# Altium footprint library Connector_PinHeader_1.27mm.PcbLib: 278 footprints (part 5 of 18)
Each footprint in its own frame and in the unit in brackets; x right, y up, seen from the top. Pads: shape width x height; smd on the part's side, far side on the other; paste and mask are expansions set on the pad; w line width, h text height; cw(c..) or ccw(c..) is an arc to the next point about the centre after c.
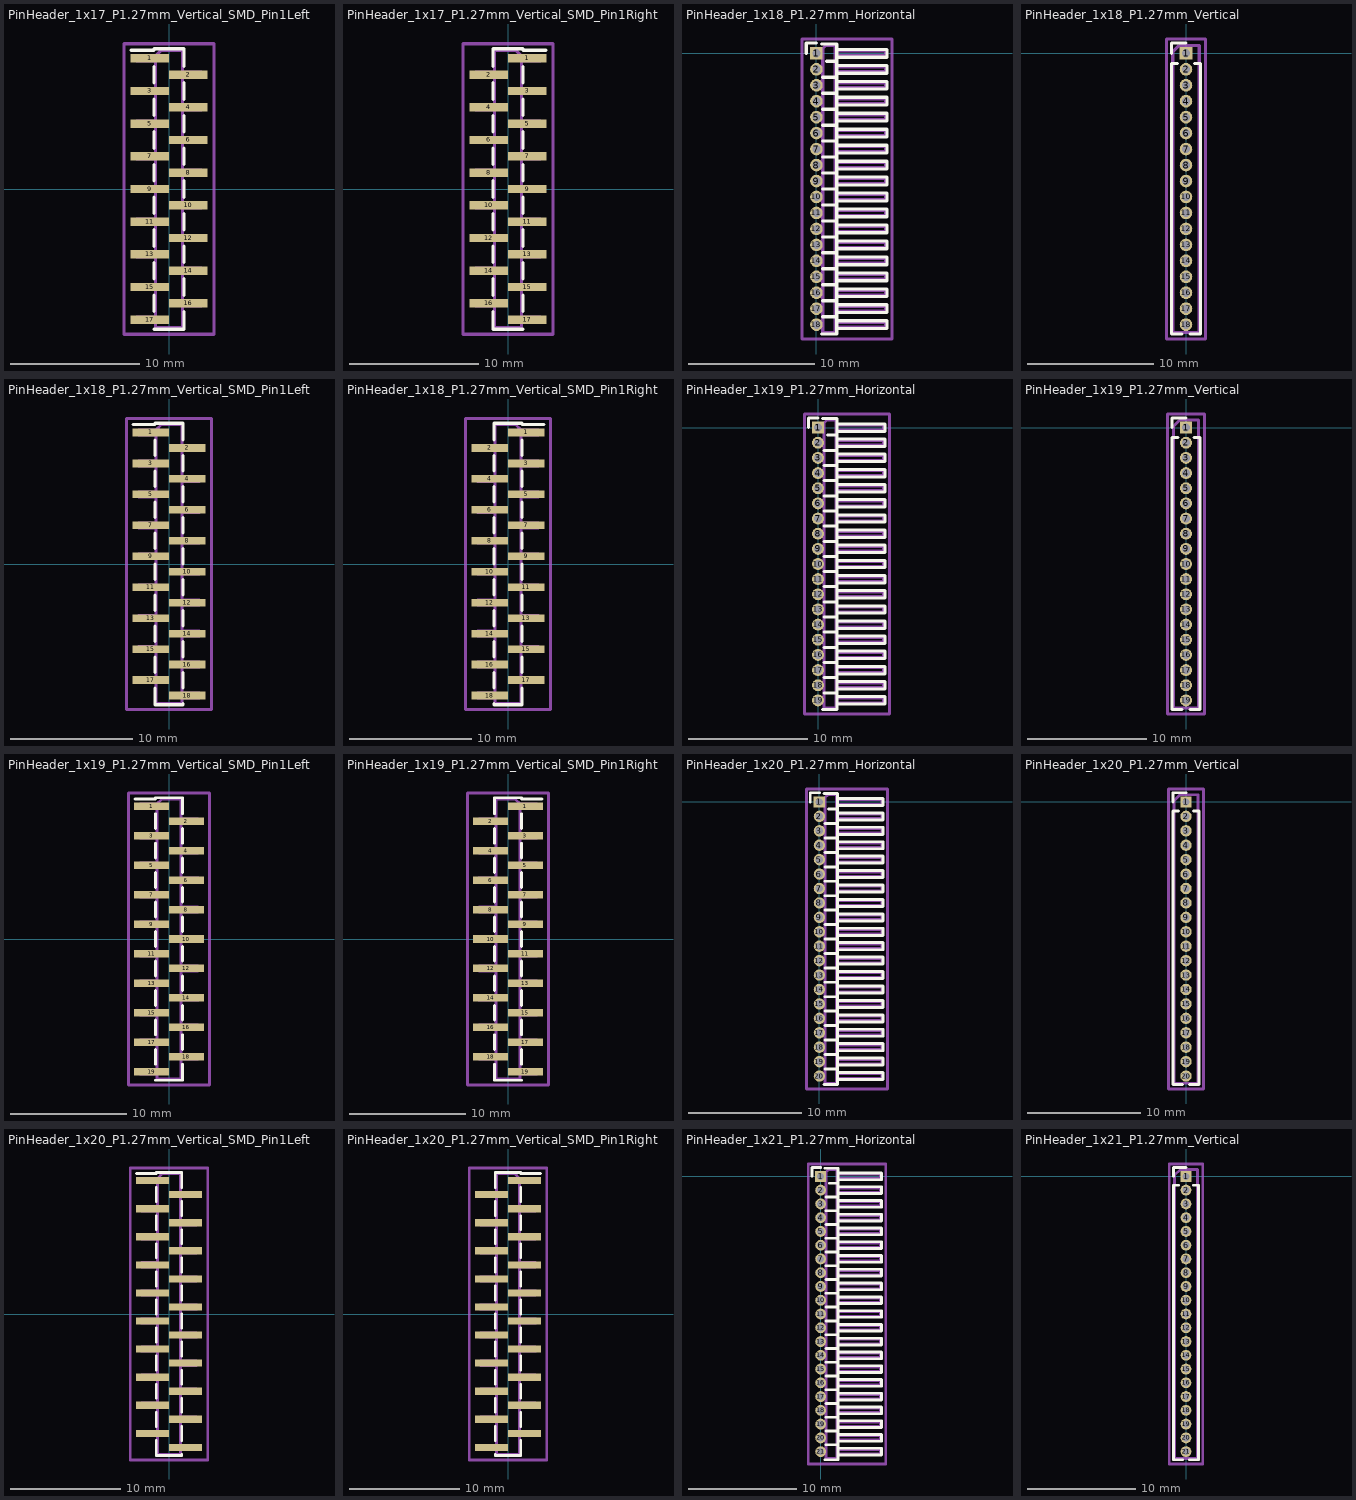
[diagram p4: the footprints below, top view; thin cyan lines are the x and y axes]

## PinHeader_1x17_P1.27mm_Vertical_SMD_Pin1Left [mm]
pads (17):
  rect 3x0.65 smd: 1(-1.5,10.16) 2(1.5,8.89) 3(-1.5,7.62) 4(1.5,6.35) 5(-1.5,5.08) 6(1.5,3.81) 7(-1.5,2.54) 8(1.5,1.27) 9(-1.5,0) 10(1.5,-1.27) 11(-1.5,-2.54) 12(1.5,-3.81) 13(-1.5,-5.08) 14(1.5,-6.35) 15(-1.5,-7.62) 16(1.5,-8.89) 17(-1.5,-10.16)
F.SilkS:
  lines w0.254: -2.94,10.795 -1.16,10.795 -1.16,10.905 1.16,10.905 ; -1.16,-10.905 1.16,-10.905 ; -1.16,-9.525 -1.16,-8.255 ; -1.16,-6.985 -1.16,-5.715 ; -1.16,-4.445 -1.16,-3.175 ; -1.16,-1.905 -1.16,-0.635 ; -1.16,0.635 -1.16,1.905 ; -1.16,3.175 -1.16,4.445 ; -1.16,5.715 -1.16,6.985 ; -1.16,8.255 -1.16,9.525 ; 1.16,-10.795 1.16,-10.905 ; 1.16,-9.525 1.16,-10.905 ; 1.16,-8.255 1.16,-6.985 ; 1.16,-5.715 1.16,-4.445 ; 1.16,-3.175 1.16,-1.905 ; 1.16,-0.635 1.16,0.635 ; 1.16,1.905 1.16,3.175 ; 1.16,4.445 1.16,5.715 ; 1.16,6.985 1.16,8.255 ; 1.16,9.525 1.16,10.795
Top Assembly:
  lines w0.254: -1.05,-10.36 -2.5,-10.36 -2.5,-9.96 -1.05,-9.96 ; -1.05,-7.82 -2.5,-7.82 -2.5,-7.42 -1.05,-7.42 ; -1.05,-5.28 -2.5,-5.28 -2.5,-4.88 -1.05,-4.88 ; -1.05,-2.74 -2.5,-2.74 -2.5,-2.34 -1.05,-2.34 ; -1.05,-0.2 -2.5,-0.2 -2.5,0.2 -1.05,0.2 ; -1.05,2.34 -2.5,2.34 -2.5,2.74 -1.05,2.74 ; -1.05,4.88 -2.5,4.88 -2.5,5.28 -1.05,5.28 ; -1.05,7.42 -2.5,7.42 -2.5,7.82 -1.05,7.82 ; -1.05,9.96 -2.5,9.96 -2.5,10.36 -1.05,10.36 ; 1.05,-9.09 2.5,-9.09 2.5,-8.69 1.05,-8.69 ; 1.05,-6.55 2.5,-6.55 2.5,-6.15 1.05,-6.15 ; 1.05,-4.01 2.5,-4.01 2.5,-3.61 1.05,-3.61 ; 1.05,-1.47 2.5,-1.47 2.5,-1.07 1.05,-1.07 ; 1.05,1.07 2.5,1.07 2.5,1.47 1.05,1.47 ; 1.05,3.61 2.5,3.61 2.5,4.01 1.05,4.01 ; 1.05,6.15 2.5,6.15 2.5,6.55 1.05,6.55 ; 1.05,8.69 2.5,8.69 2.5,9.09 1.05,9.09 ; -1.05,10.36 -1.05,-10.795 1.05,-10.795 1.05,10.795 -0.615,10.795 -1.05,10.36
  text "'.Designator'" at 0.84,-4.047 h1
Top Courtyard:
  lines w0.254: -3.5,-11.3 3.5,-11.3 3.5,11.3 -3.5,11.3 -3.5,-11.3
Top Designator:
  text ".Designator" at -7.618,-0.508 h1.52

## PinHeader_1x17_P1.27mm_Vertical_SMD_Pin1Right [mm]
pads (17):
  rect 3x0.65 smd: 1(1.5,10.16) 2(-1.5,8.89) 3(1.5,7.62) 4(-1.5,6.35) 5(1.5,5.08) 6(-1.5,3.81) 7(1.5,2.54) 8(-1.5,1.27) 9(1.5,0) 10(-1.5,-1.27) 11(1.5,-2.54) 12(-1.5,-3.81) 13(1.5,-5.08) 14(-1.5,-6.35) 15(1.5,-7.62) 16(-1.5,-8.89) 17(1.5,-10.16)
F.SilkS:
  lines w0.254: -1.16,-10.795 -1.16,-10.905 ; -1.16,-9.525 -1.16,-10.905 ; -1.16,-8.255 -1.16,-6.985 ; -1.16,-5.715 -1.16,-4.445 ; -1.16,-3.175 -1.16,-1.905 ; -1.16,-0.635 -1.16,0.635 ; -1.16,1.905 -1.16,3.175 ; -1.16,4.445 -1.16,5.715 ; -1.16,6.985 -1.16,8.255 ; -1.16,10.905 1.16,10.905 1.16,10.795 2.94,10.795 ; 1.16,-10.905 -1.16,-10.905 ; 1.16,-9.525 1.16,-8.255 ; 1.16,-6.985 1.16,-5.715 ; 1.16,-4.445 1.16,-3.175 ; 1.16,-1.905 1.16,-0.635 ; 1.16,0.635 1.16,1.905 ; 1.16,3.175 1.16,4.445 ; 1.16,5.715 1.16,6.985 ; 1.16,8.255 1.16,9.525 ; -1.16,9.525 -1.16,10.795 -1.16,9.525
Top Assembly:
  lines w0.254: -1.05,-9.09 -2.5,-9.09 -2.5,-8.69 -1.05,-8.69 ; -1.05,-6.55 -2.5,-6.55 -2.5,-6.15 -1.05,-6.15 ; -1.05,-4.01 -2.5,-4.01 -2.5,-3.61 -1.05,-3.61 ; -1.05,-1.47 -2.5,-1.47 -2.5,-1.07 -1.05,-1.07 ; -1.05,1.07 -2.5,1.07 -2.5,1.47 -1.05,1.47 ; -1.05,3.61 -2.5,3.61 -2.5,4.01 -1.05,4.01 ; -1.05,6.15 -2.5,6.15 -2.5,6.55 -1.05,6.55 ; -1.05,8.69 -2.5,8.69 -2.5,9.09 -1.05,9.09 ; 1.05,-10.36 2.5,-10.36 2.5,-9.96 1.05,-9.96 ; 1.05,-7.82 2.5,-7.82 2.5,-7.42 1.05,-7.42 ; 1.05,-5.28 2.5,-5.28 2.5,-4.88 1.05,-4.88 ; 1.05,-2.74 2.5,-2.74 2.5,-2.34 1.05,-2.34 ; 1.05,-0.2 2.5,-0.2 2.5,0.2 1.05,0.2 ; 1.05,2.34 2.5,2.34 2.5,2.74 1.05,2.74 ; 1.05,4.88 2.5,4.88 2.5,5.28 1.05,5.28 ; 1.05,7.42 2.5,7.42 2.5,7.82 1.05,7.82 ; 1.05,9.96 2.5,9.96 2.5,10.36 1.05,10.36 ; 1.05,10.36 1.05,-10.795 -1.05,-10.795 -1.05,10.795 0.615,10.795 1.05,10.36
  text "'.Designator'" at 0.84,-4.047 h1
Top Courtyard:
  lines w0.254: -3.5,-11.3 3.5,-11.3 3.5,11.3 -3.5,11.3 -3.5,-11.3
Top Designator:
  text ".Designator" at -7.618,-0.508 h1.52

## PinHeader_1x18_P1.27mm_Horizontal [mm]
pads (18):
  rect 1x1 hole 0.65: 1(0,0)
  round 1 hole 0.65: 2(0,-1.27) 3(0,-2.54) 4(0,-3.81) 5(0,-5.08) 6(0,-6.35) 7(0,-7.62) 8(0,-8.89) 9(0,-10.16) 10(0,-11.43) 11(0,-12.7) 12(0,-13.97) 13(0,-15.24) 14(0,-16.51) 15(0,-17.78) 16(0,-19.05) 17(0,-20.32) 18(0,-21.59)
F.SilkS:
  lines w0.254: -0.81,0 -0.81,0.81 0,0.81 ; 0.39,-22.335 1.61,-22.335 1.61,0.745 0.39,0.745 ; 0.503,-20.955 1.61,-20.955 ; 0.503,-19.685 1.61,-19.685 ; 0.503,-18.415 1.61,-18.415 ; 0.503,-17.145 1.61,-17.145 ; 0.503,-15.875 1.61,-15.875 ; 0.503,-14.605 1.61,-14.605 ; 0.503,-13.335 1.61,-13.335 ; 0.503,-12.065 1.61,-12.065 ; 0.503,-10.795 1.61,-10.795 ; 0.503,-9.525 1.61,-9.525 ; 0.503,-8.255 1.61,-8.255 ; 0.503,-6.985 1.61,-6.985 ; 0.503,-5.715 1.61,-5.715 ; 0.503,-4.445 1.61,-4.445 ; 0.503,-3.175 1.61,-3.175 ; 0.503,-1.905 1.61,-1.905 ; 0.81,-0.635 1.61,-0.635 ; 1.61,-21.9 5.61,-21.9 5.61,-21.28 1.61,-21.28 ; 1.61,-20.63 5.61,-20.63 5.61,-20.01 1.61,-20.01 ; 1.61,-19.36 5.61,-19.36 5.61,-18.74 1.61,-18.74 ; 1.61,-18.09 5.61,-18.09 5.61,-17.47 1.61,-17.47 ; 1.61,-16.82 5.61,-16.82 5.61,-16.2 1.61,-16.2 ; 1.61,-15.55 5.61,-15.55 5.61,-14.93 1.61,-14.93 ; 1.61,-14.28 5.61,-14.28 5.61,-13.66 1.61,-13.66 ; 1.61,-13.01 5.61,-13.01 5.61,-12.39 1.61,-12.39 ; 1.61,-11.74 5.61,-11.74 5.61,-11.12 1.61,-11.12 ; 1.61,-10.47 5.61,-10.47 5.61,-9.85 1.61,-9.85 ; 1.61,-9.2 5.61,-9.2 5.61,-8.58 1.61,-8.58 ; 1.61,-7.93 5.61,-7.93 5.61,-7.31 1.61,-7.31 ; 1.61,-6.66 5.61,-6.66 5.61,-6.04 1.61,-6.04 ; 1.61,-5.39 5.61,-5.39 5.61,-4.77 1.61,-4.77 ; 1.61,-4.12 5.61,-4.12 5.61,-3.5 1.61,-3.5 ; 1.61,-2.85 5.61,-2.85 5.61,-2.23 1.61,-2.23 ; 1.61,-1.58 5.61,-1.58 5.61,-0.96 1.61,-0.96 ; 1.61,-0.31 5.61,-0.31 5.61,0.31 1.61,0.31 1.61,-0.31
Top Assembly:
  lines w0.254: 0.5,-21.79 -0.2,-21.79 -0.2,-21.39 0.5,-21.39 ; 0.5,-20.52 -0.2,-20.52 -0.2,-20.12 0.5,-20.12 ; 0.5,-19.25 -0.2,-19.25 -0.2,-18.85 0.5,-18.85 ; 0.5,-17.98 -0.2,-17.98 -0.2,-17.58 0.5,-17.58 ; 0.5,-16.71 -0.2,-16.71 -0.2,-16.31 0.5,-16.31 ; 0.5,-15.44 -0.2,-15.44 -0.2,-15.04 0.5,-15.04 ; 0.5,-14.17 -0.2,-14.17 -0.2,-13.77 0.5,-13.77 ; 0.5,-12.9 -0.2,-12.9 -0.2,-12.5 0.5,-12.5 ; 0.5,-11.63 -0.2,-11.63 -0.2,-11.23 0.5,-11.23 ; 0.5,-10.36 -0.2,-10.36 -0.2,-9.96 0.5,-9.96 ; 0.5,-9.09 -0.2,-9.09 -0.2,-8.69 0.5,-8.69 ; 0.5,-7.82 -0.2,-7.82 -0.2,-7.42 0.5,-7.42 ; 0.5,-6.55 -0.2,-6.55 -0.2,-6.15 0.5,-6.15 ; 0.5,-5.28 -0.2,-5.28 -0.2,-4.88 0.5,-4.88 ; 0.5,-4.01 -0.2,-4.01 -0.2,-3.61 0.5,-3.61 ; 0.5,-2.74 -0.2,-2.74 -0.2,-2.34 0.5,-2.34 ; 0.5,-1.47 -0.2,-1.47 -0.2,-1.07 0.5,-1.07 ; 0.5,-0.2 -0.2,-0.2 -0.2,0.2 0.5,0.2 ; 1.5,-21.79 5.5,-21.79 5.5,-21.39 1.5,-21.39 ; 1.5,-20.52 5.5,-20.52 5.5,-20.12 1.5,-20.12 ; 1.5,-19.25 5.5,-19.25 5.5,-18.85 1.5,-18.85 ; 1.5,-17.98 5.5,-17.98 5.5,-17.58 1.5,-17.58 ; 1.5,-16.71 5.5,-16.71 5.5,-16.31 1.5,-16.31 ; 1.5,-15.44 5.5,-15.44 5.5,-15.04 1.5,-15.04 ; 1.5,-14.17 5.5,-14.17 5.5,-13.77 1.5,-13.77 ; 1.5,-12.9 5.5,-12.9 5.5,-12.5 1.5,-12.5 ; 1.5,-11.63 5.5,-11.63 5.5,-11.23 1.5,-11.23 ; 1.5,-10.36 5.5,-10.36 5.5,-9.96 1.5,-9.96 ; 1.5,-9.09 5.5,-9.09 5.5,-8.69 1.5,-8.69 ; 1.5,-7.82 5.5,-7.82 5.5,-7.42 1.5,-7.42 ; 1.5,-6.55 5.5,-6.55 5.5,-6.15 1.5,-6.15 ; 1.5,-5.28 5.5,-5.28 5.5,-4.88 1.5,-4.88 ; 1.5,-4.01 5.5,-4.01 5.5,-3.61 1.5,-3.61 ; 1.5,-2.74 5.5,-2.74 5.5,-2.34 1.5,-2.34 ; 1.5,-1.47 5.5,-1.47 5.5,-1.07 1.5,-1.07 ; 1.5,-0.2 5.5,-0.2 5.5,0.2 1.5,0.2 ; 0.5,-22.225 1.5,-22.225 1.5,0.635 0.75,0.635 0.5,0.385 0.5,-22.225
  text "'.Designator'" at 1.504,-13.223 h0.6
Top Courtyard:
  lines w0.254: -1.14,-22.73 6,-22.73 6,1.14 -1.14,1.14 -1.14,-22.73
Top Designator:
  text ".Designator" at -5.188,-11.303 h1.52

## PinHeader_1x18_P1.27mm_Vertical [mm]
pads (18):
  rect 1x1 hole 0.65: 1(0,0)
  round 1 hole 0.65: 2(0,-1.27) 3(0,-2.54) 4(0,-3.81) 5(0,-5.08) 6(0,-6.35) 7(0,-7.62) 8(0,-8.89) 9(0,-10.16) 10(0,-11.43) 11(0,-12.7) 12(0,-13.97) 13(0,-15.24) 14(0,-16.51) 15(0,-17.78) 16(0,-19.05) 17(0,-20.32) 18(0,-21.59)
F.SilkS:
  lines w0.254: -1.16,0 -1.16,0.81 0,0.81 ; -0.667,-0.81 -1.16,-0.81 -1.16,-22.335 -0.318,-22.335 ; 0.318,-22.335 1.16,-22.335 1.16,-0.81 0.667,-0.81
Top Assembly:
  lines w0.254: -1.05,-22.225 1.05,-22.225 1.05,0.635 -0.525,0.635 -1.05,0.11 -1.05,-22.225
  text "'.Designator'" at 0.84,-14.842 h1
Top Courtyard:
  lines w0.254: -1.55,-22.73 1.55,-22.73 1.55,1.14 -1.55,1.14 -1.55,-22.73
Top Designator:
  text ".Designator" at -7.618,-11.303 h1.52

## PinHeader_1x18_P1.27mm_Vertical_SMD_Pin1Left [mm]
pads (18):
  rect 3x0.65 smd: 1(-1.5,10.795) 2(1.5,9.525) 3(-1.5,8.255) 4(1.5,6.985) 5(-1.5,5.715) 6(1.5,4.445) 7(-1.5,3.175) 8(1.5,1.905) 9(-1.5,0.635) 10(1.5,-0.635) 11(-1.5,-1.905) 12(1.5,-3.175) 13(-1.5,-4.445) 14(1.5,-5.715) 15(-1.5,-6.985) 16(1.5,-8.255) 17(-1.5,-9.525) 18(1.5,-10.795)
F.SilkS:
  lines w0.254: -2.94,11.43 -1.16,11.43 -1.16,11.54 1.16,11.54 ; -1.16,-10.16 -1.16,-11.54 1.16,-11.54 1.16,-11.43 ; -1.16,-8.89 -1.16,-7.62 ; -1.16,-6.35 -1.16,-5.08 ; -1.16,-3.81 -1.16,-2.54 ; -1.16,-1.27 -1.16,0 ; -1.16,1.27 -1.16,2.54 ; -1.16,3.81 -1.16,5.08 ; -1.16,6.35 -1.16,7.62 ; -1.16,8.89 -1.16,10.16 ; 1.16,-10.16 1.16,-8.89 ; 1.16,-7.62 1.16,-6.35 ; 1.16,-5.08 1.16,-3.81 ; 1.16,-2.54 1.16,-1.27 ; 1.16,0 1.16,1.27 ; 1.16,2.54 1.16,3.81 ; 1.16,5.08 1.16,6.35 ; 1.16,7.62 1.16,8.89 ; 1.16,10.16 1.16,11.43
Top Assembly:
  lines w0.254: -1.05,-9.725 -2.5,-9.725 -2.5,-9.325 -1.05,-9.325 ; -1.05,-7.185 -2.5,-7.185 -2.5,-6.785 -1.05,-6.785 ; -1.05,-4.645 -2.5,-4.645 -2.5,-4.245 -1.05,-4.245 ; -1.05,-2.105 -2.5,-2.105 -2.5,-1.705 -1.05,-1.705 ; -1.05,0.435 -2.5,0.435 -2.5,0.835 -1.05,0.835 ; -1.05,2.975 -2.5,2.975 -2.5,3.375 -1.05,3.375 ; -1.05,5.515 -2.5,5.515 -2.5,5.915 -1.05,5.915 ; -1.05,8.055 -2.5,8.055 -2.5,8.455 -1.05,8.455 ; -1.05,10.595 -2.5,10.595 -2.5,10.995 -1.05,10.995 ; 1.05,-10.995 2.5,-10.995 2.5,-10.595 1.05,-10.595 ; 1.05,-8.455 2.5,-8.455 2.5,-8.055 1.05,-8.055 ; 1.05,-5.915 2.5,-5.915 2.5,-5.515 1.05,-5.515 ; 1.05,-3.375 2.5,-3.375 2.5,-2.975 1.05,-2.975 ; 1.05,-0.835 2.5,-0.835 2.5,-0.435 1.05,-0.435 ; 1.05,1.705 2.5,1.705 2.5,2.105 1.05,2.105 ; 1.05,4.245 2.5,4.245 2.5,4.645 1.05,4.645 ; 1.05,6.785 2.5,6.785 2.5,7.185 1.05,7.185 ; 1.05,9.325 2.5,9.325 2.5,9.725 1.05,9.725 ; -1.05,10.995 -1.05,-11.43 1.05,-11.43 1.05,11.43 -0.615,11.43 -1.05,10.995
  text "'.Designator'" at 0.84,-4.047 h1
Top Courtyard:
  lines w0.254: -3.5,-11.94 3.5,-11.94 3.5,11.94 -3.5,11.94 -3.5,-11.94
Top Designator:
  text ".Designator" at -7.618,-0.508 h1.52

## PinHeader_1x18_P1.27mm_Vertical_SMD_Pin1Right [mm]
pads (18):
  rect 3x0.65 smd: 1(1.5,10.795) 2(-1.5,9.525) 3(1.5,8.255) 4(-1.5,6.985) 5(1.5,5.715) 6(-1.5,4.445) 7(1.5,3.175) 8(-1.5,1.905) 9(1.5,0.635) 10(-1.5,-0.635) 11(1.5,-1.905) 12(-1.5,-3.175) 13(1.5,-4.445) 14(-1.5,-5.715) 15(1.5,-6.985) 16(-1.5,-8.255) 17(1.5,-9.525) 18(-1.5,-10.795)
F.SilkS:
  lines w0.254: -1.16,-11.43 -1.16,-11.54 1.16,-11.54 1.16,-10.16 ; -1.16,-10.16 -1.16,-8.89 ; -1.16,-7.62 -1.16,-6.35 ; -1.16,-5.08 -1.16,-3.81 ; -1.16,-2.54 -1.16,-1.27 ; -1.16,0 -1.16,1.27 ; -1.16,2.54 -1.16,3.81 ; -1.16,5.08 -1.16,6.35 ; -1.16,7.62 -1.16,8.89 ; -1.16,11.54 1.16,11.54 1.16,11.43 2.94,11.43 ; 1.16,-8.89 1.16,-7.62 ; 1.16,-6.35 1.16,-5.08 ; 1.16,-3.81 1.16,-2.54 ; 1.16,-1.27 1.16,0 ; 1.16,1.27 1.16,2.54 ; 1.16,3.81 1.16,5.08 ; 1.16,6.35 1.16,7.62 ; 1.16,8.89 1.16,10.16 ; -1.16,10.16 -1.16,11.43 -1.16,10.16
Top Assembly:
  lines w0.254: -1.05,-10.995 -2.5,-10.995 -2.5,-10.595 -1.05,-10.595 ; -1.05,-8.455 -2.5,-8.455 -2.5,-8.055 -1.05,-8.055 ; -1.05,-5.915 -2.5,-5.915 -2.5,-5.515 -1.05,-5.515 ; -1.05,-3.375 -2.5,-3.375 -2.5,-2.975 -1.05,-2.975 ; -1.05,-0.835 -2.5,-0.835 -2.5,-0.435 -1.05,-0.435 ; -1.05,1.705 -2.5,1.705 -2.5,2.105 -1.05,2.105 ; -1.05,4.245 -2.5,4.245 -2.5,4.645 -1.05,4.645 ; -1.05,6.785 -2.5,6.785 -2.5,7.185 -1.05,7.185 ; -1.05,9.325 -2.5,9.325 -2.5,9.725 -1.05,9.725 ; 1.05,-9.725 2.5,-9.725 2.5,-9.325 1.05,-9.325 ; 1.05,-7.185 2.5,-7.185 2.5,-6.785 1.05,-6.785 ; 1.05,-4.645 2.5,-4.645 2.5,-4.245 1.05,-4.245 ; 1.05,-2.105 2.5,-2.105 2.5,-1.705 1.05,-1.705 ; 1.05,0.435 2.5,0.435 2.5,0.835 1.05,0.835 ; 1.05,2.975 2.5,2.975 2.5,3.375 1.05,3.375 ; 1.05,5.515 2.5,5.515 2.5,5.915 1.05,5.915 ; 1.05,8.055 2.5,8.055 2.5,8.455 1.05,8.455 ; 1.05,10.595 2.5,10.595 2.5,10.995 1.05,10.995 ; 1.05,10.995 1.05,-11.43 -1.05,-11.43 -1.05,11.43 0.615,11.43 1.05,10.995
  text "'.Designator'" at 0.84,-4.047 h1
Top Courtyard:
  lines w0.254: -3.5,-11.94 3.5,-11.94 3.5,11.94 -3.5,11.94 -3.5,-11.94
Top Designator:
  text ".Designator" at -7.618,-0.508 h1.52

## PinHeader_1x19_P1.27mm_Horizontal [mm]
pads (19):
  rect 1x1 hole 0.65: 1(0,0)
  round 1 hole 0.65: 2(0,-1.27) 3(0,-2.54) 4(0,-3.81) 5(0,-5.08) 6(0,-6.35) 7(0,-7.62) 8(0,-8.89) 9(0,-10.16) 10(0,-11.43) 11(0,-12.7) 12(0,-13.97) 13(0,-15.24) 14(0,-16.51) 15(0,-17.78) 16(0,-19.05) 17(0,-20.32) 18(0,-21.59) 19(0,-22.86)
F.SilkS:
  lines w0.254: -0.81,0 -0.81,0.81 0,0.81 ; 0.39,-23.605 1.61,-23.605 1.61,0.745 0.39,0.745 ; 0.503,-22.225 1.61,-22.225 ; 0.503,-20.955 1.61,-20.955 ; 0.503,-19.685 1.61,-19.685 ; 0.503,-18.415 1.61,-18.415 ; 0.503,-17.145 1.61,-17.145 ; 0.503,-15.875 1.61,-15.875 ; 0.503,-14.605 1.61,-14.605 ; 0.503,-13.335 1.61,-13.335 ; 0.503,-12.065 1.61,-12.065 ; 0.503,-10.795 1.61,-10.795 ; 0.503,-9.525 1.61,-9.525 ; 0.503,-8.255 1.61,-8.255 ; 0.503,-6.985 1.61,-6.985 ; 0.503,-5.715 1.61,-5.715 ; 0.503,-4.445 1.61,-4.445 ; 0.503,-3.175 1.61,-3.175 ; 0.503,-1.905 1.61,-1.905 ; 0.81,-0.635 1.61,-0.635 ; 1.61,-23.17 5.61,-23.17 5.61,-22.55 1.61,-22.55 ; 1.61,-21.9 5.61,-21.9 5.61,-21.28 1.61,-21.28 ; 1.61,-20.63 5.61,-20.63 5.61,-20.01 1.61,-20.01 ; 1.61,-19.36 5.61,-19.36 5.61,-18.74 1.61,-18.74 ; 1.61,-18.09 5.61,-18.09 5.61,-17.47 1.61,-17.47 ; 1.61,-16.82 5.61,-16.82 5.61,-16.2 1.61,-16.2 ; 1.61,-15.55 5.61,-15.55 5.61,-14.93 1.61,-14.93 ; 1.61,-14.28 5.61,-14.28 5.61,-13.66 1.61,-13.66 ; 1.61,-13.01 5.61,-13.01 5.61,-12.39 1.61,-12.39 ; 1.61,-11.74 5.61,-11.74 5.61,-11.12 1.61,-11.12 ; 1.61,-10.47 5.61,-10.47 5.61,-9.85 1.61,-9.85 ; 1.61,-9.2 5.61,-9.2 5.61,-8.58 1.61,-8.58 ; 1.61,-7.93 5.61,-7.93 5.61,-7.31 1.61,-7.31 ; 1.61,-6.66 5.61,-6.66 5.61,-6.04 1.61,-6.04 ; 1.61,-5.39 5.61,-5.39 5.61,-4.77 1.61,-4.77 ; 1.61,-4.12 5.61,-4.12 5.61,-3.5 1.61,-3.5 ; 1.61,-2.85 5.61,-2.85 5.61,-2.23 1.61,-2.23 ; 1.61,-1.58 5.61,-1.58 5.61,-0.96 1.61,-0.96 ; 1.61,-0.31 5.61,-0.31 5.61,0.31 1.61,0.31 1.61,-0.31
Top Assembly:
  lines w0.254: 0.5,-23.06 -0.2,-23.06 -0.2,-22.66 0.5,-22.66 ; 0.5,-21.79 -0.2,-21.79 -0.2,-21.39 0.5,-21.39 ; 0.5,-20.52 -0.2,-20.52 -0.2,-20.12 0.5,-20.12 ; 0.5,-19.25 -0.2,-19.25 -0.2,-18.85 0.5,-18.85 ; 0.5,-17.98 -0.2,-17.98 -0.2,-17.58 0.5,-17.58 ; 0.5,-16.71 -0.2,-16.71 -0.2,-16.31 0.5,-16.31 ; 0.5,-15.44 -0.2,-15.44 -0.2,-15.04 0.5,-15.04 ; 0.5,-14.17 -0.2,-14.17 -0.2,-13.77 0.5,-13.77 ; 0.5,-12.9 -0.2,-12.9 -0.2,-12.5 0.5,-12.5 ; 0.5,-11.63 -0.2,-11.63 -0.2,-11.23 0.5,-11.23 ; 0.5,-10.36 -0.2,-10.36 -0.2,-9.96 0.5,-9.96 ; 0.5,-9.09 -0.2,-9.09 -0.2,-8.69 0.5,-8.69 ; 0.5,-7.82 -0.2,-7.82 -0.2,-7.42 0.5,-7.42 ; 0.5,-6.55 -0.2,-6.55 -0.2,-6.15 0.5,-6.15 ; 0.5,-5.28 -0.2,-5.28 -0.2,-4.88 0.5,-4.88 ; 0.5,-4.01 -0.2,-4.01 -0.2,-3.61 0.5,-3.61 ; 0.5,-2.74 -0.2,-2.74 -0.2,-2.34 0.5,-2.34 ; 0.5,-1.47 -0.2,-1.47 -0.2,-1.07 0.5,-1.07 ; 0.5,-0.2 -0.2,-0.2 -0.2,0.2 0.5,0.2 ; 1.5,-23.06 5.5,-23.06 5.5,-22.66 1.5,-22.66 ; 1.5,-21.79 5.5,-21.79 5.5,-21.39 1.5,-21.39 ; 1.5,-20.52 5.5,-20.52 5.5,-20.12 1.5,-20.12 ; 1.5,-19.25 5.5,-19.25 5.5,-18.85 1.5,-18.85 ; 1.5,-17.98 5.5,-17.98 5.5,-17.58 1.5,-17.58 ; 1.5,-16.71 5.5,-16.71 5.5,-16.31 1.5,-16.31 ; 1.5,-15.44 5.5,-15.44 5.5,-15.04 1.5,-15.04 ; 1.5,-14.17 5.5,-14.17 5.5,-13.77 1.5,-13.77 ; 1.5,-12.9 5.5,-12.9 5.5,-12.5 1.5,-12.5 ; 1.5,-11.63 5.5,-11.63 5.5,-11.23 1.5,-11.23 ; 1.5,-10.36 5.5,-10.36 5.5,-9.96 1.5,-9.96 ; 1.5,-9.09 5.5,-9.09 5.5,-8.69 1.5,-8.69 ; 1.5,-7.82 5.5,-7.82 5.5,-7.42 1.5,-7.42 ; 1.5,-6.55 5.5,-6.55 5.5,-6.15 1.5,-6.15 ; 1.5,-5.28 5.5,-5.28 5.5,-4.88 1.5,-4.88 ; 1.5,-4.01 5.5,-4.01 5.5,-3.61 1.5,-3.61 ; 1.5,-2.74 5.5,-2.74 5.5,-2.34 1.5,-2.34 ; 1.5,-1.47 5.5,-1.47 5.5,-1.07 1.5,-1.07 ; 1.5,-0.2 5.5,-0.2 5.5,0.2 1.5,0.2 ; 0.5,-23.495 1.5,-23.495 1.5,0.635 0.75,0.635 0.5,0.385 0.5,-23.495
  text "'.Designator'" at 1.504,-13.858 h0.6
Top Courtyard:
  lines w0.254: -1.14,-24 6,-24 6,1.14 -1.14,1.14 -1.14,-24
Top Designator:
  text ".Designator" at -5.188,-11.938 h1.52

## PinHeader_1x19_P1.27mm_Vertical [mm]
pads (19):
  rect 1x1 hole 0.65: 1(0,0)
  round 1 hole 0.65: 2(0,-1.27) 3(0,-2.54) 4(0,-3.81) 5(0,-5.08) 6(0,-6.35) 7(0,-7.62) 8(0,-8.89) 9(0,-10.16) 10(0,-11.43) 11(0,-12.7) 12(0,-13.97) 13(0,-15.24) 14(0,-16.51) 15(0,-17.78) 16(0,-19.05) 17(0,-20.32) 18(0,-21.59) 19(0,-22.86)
F.SilkS:
  lines w0.254: -1.16,0 -1.16,0.81 0,0.81 ; -0.667,-0.81 -1.16,-0.81 -1.16,-23.605 -0.318,-23.605 ; 0.318,-23.605 1.16,-23.605 1.16,-0.81 0.667,-0.81
Top Assembly:
  lines w0.254: -1.05,-23.495 1.05,-23.495 1.05,0.635 -0.525,0.635 -1.05,0.11 -1.05,-23.495
  text "'.Designator'" at 0.84,-15.477 h1
Top Courtyard:
  lines w0.254: -1.55,-24 1.55,-24 1.55,1.14 -1.55,1.14 -1.55,-24
Top Designator:
  text ".Designator" at -7.618,-11.938 h1.52

## PinHeader_1x19_P1.27mm_Vertical_SMD_Pin1Left [mm]
pads (19):
  rect 3x0.65 smd: 1(-1.5,11.43) 2(1.5,10.16) 3(-1.5,8.89) 4(1.5,7.62) 5(-1.5,6.35) 6(1.5,5.08) 7(-1.5,3.81) 8(1.5,2.54) 9(-1.5,1.27) 10(1.5,0) 11(-1.5,-1.27) 12(1.5,-2.54) 13(-1.5,-3.81) 14(1.5,-5.08) 15(-1.5,-6.35) 16(1.5,-7.62) 17(-1.5,-8.89) 18(1.5,-10.16) 19(-1.5,-11.43)
F.SilkS:
  lines w0.254: -2.94,12.065 -1.16,12.065 -1.16,12.175 1.16,12.175 ; -1.16,-12.175 1.16,-12.175 ; -1.16,-10.795 -1.16,-9.525 ; -1.16,-8.255 -1.16,-6.985 ; -1.16,-5.715 -1.16,-4.445 ; -1.16,-3.175 -1.16,-1.905 ; -1.16,-0.635 -1.16,0.635 ; -1.16,1.905 -1.16,3.175 ; -1.16,4.445 -1.16,5.715 ; -1.16,6.985 -1.16,8.255 ; -1.16,9.525 -1.16,10.795 ; 1.16,-12.065 1.16,-12.175 ; 1.16,-10.795 1.16,-12.175 ; 1.16,-9.525 1.16,-8.255 ; 1.16,-6.985 1.16,-5.715 ; 1.16,-4.445 1.16,-3.175 ; 1.16,-1.905 1.16,-0.635 ; 1.16,0.635 1.16,1.905 ; 1.16,3.175 1.16,4.445 ; 1.16,5.715 1.16,6.985 ; 1.16,8.255 1.16,9.525 ; 1.16,10.795 1.16,12.065
Top Assembly:
  lines w0.254: -1.05,-11.63 -2.5,-11.63 -2.5,-11.23 -1.05,-11.23 ; -1.05,-9.09 -2.5,-9.09 -2.5,-8.69 -1.05,-8.69 ; -1.05,-6.55 -2.5,-6.55 -2.5,-6.15 -1.05,-6.15 ; -1.05,-4.01 -2.5,-4.01 -2.5,-3.61 -1.05,-3.61 ; -1.05,-1.47 -2.5,-1.47 -2.5,-1.07 -1.05,-1.07 ; -1.05,1.07 -2.5,1.07 -2.5,1.47 -1.05,1.47 ; -1.05,3.61 -2.5,3.61 -2.5,4.01 -1.05,4.01 ; -1.05,6.15 -2.5,6.15 -2.5,6.55 -1.05,6.55 ; -1.05,8.69 -2.5,8.69 -2.5,9.09 -1.05,9.09 ; -1.05,11.23 -2.5,11.23 -2.5,11.63 -1.05,11.63 ; 1.05,-10.36 2.5,-10.36 2.5,-9.96 1.05,-9.96 ; 1.05,-7.82 2.5,-7.82 2.5,-7.42 1.05,-7.42 ; 1.05,-5.28 2.5,-5.28 2.5,-4.88 1.05,-4.88 ; 1.05,-2.74 2.5,-2.74 2.5,-2.34 1.05,-2.34 ; 1.05,-0.2 2.5,-0.2 2.5,0.2 1.05,0.2 ; 1.05,2.34 2.5,2.34 2.5,2.74 1.05,2.74 ; 1.05,4.88 2.5,4.88 2.5,5.28 1.05,5.28 ; 1.05,7.42 2.5,7.42 2.5,7.82 1.05,7.82 ; 1.05,9.96 2.5,9.96 2.5,10.36 1.05,10.36 ; -1.05,11.63 -1.05,-12.065 1.05,-12.065 1.05,12.065 -0.615,12.065 -1.05,11.63
  text "'.Designator'" at 0.84,-4.047 h1
Top Courtyard:
  lines w0.254: -3.5,-12.57 3.5,-12.57 3.5,12.57 -3.5,12.57 -3.5,-12.57
Top Designator:
  text ".Designator" at -7.618,-0.508 h1.52

## PinHeader_1x19_P1.27mm_Vertical_SMD_Pin1Right [mm]
pads (19):
  rect 3x0.65 smd: 1(1.5,11.43) 2(-1.5,10.16) 3(1.5,8.89) 4(-1.5,7.62) 5(1.5,6.35) 6(-1.5,5.08) 7(1.5,3.81) 8(-1.5,2.54) 9(1.5,1.27) 10(-1.5,0) 11(1.5,-1.27) 12(-1.5,-2.54) 13(1.5,-3.81) 14(-1.5,-5.08) 15(1.5,-6.35) 16(-1.5,-7.62) 17(1.5,-8.89) 18(-1.5,-10.16) 19(1.5,-11.43)
F.SilkS:
  lines w0.254: -1.16,-12.065 -1.16,-12.175 ; -1.16,-10.795 -1.16,-12.175 ; -1.16,-9.525 -1.16,-8.255 ; -1.16,-6.985 -1.16,-5.715 ; -1.16,-4.445 -1.16,-3.175 ; -1.16,-1.905 -1.16,-0.635 ; -1.16,0.635 -1.16,1.905 ; -1.16,3.175 -1.16,4.445 ; -1.16,5.715 -1.16,6.985 ; -1.16,8.255 -1.16,9.525 ; -1.16,12.175 1.16,12.175 1.16,12.065 2.94,12.065 ; 1.16,-12.175 -1.16,-12.175 ; 1.16,-10.795 1.16,-9.525 ; 1.16,-8.255 1.16,-6.985 ; 1.16,-5.715 1.16,-4.445 ; 1.16,-3.175 1.16,-1.905 ; 1.16,-0.635 1.16,0.635 ; 1.16,1.905 1.16,3.175 ; 1.16,4.445 1.16,5.715 ; 1.16,6.985 1.16,8.255 ; 1.16,9.525 1.16,10.795 ; -1.16,10.795 -1.16,12.065 -1.16,10.795
Top Assembly:
  lines w0.254: -1.05,-10.36 -2.5,-10.36 -2.5,-9.96 -1.05,-9.96 ; -1.05,-7.82 -2.5,-7.82 -2.5,-7.42 -1.05,-7.42 ; -1.05,-5.28 -2.5,-5.28 -2.5,-4.88 -1.05,-4.88 ; -1.05,-2.74 -2.5,-2.74 -2.5,-2.34 -1.05,-2.34 ; -1.05,-0.2 -2.5,-0.2 -2.5,0.2 -1.05,0.2 ; -1.05,2.34 -2.5,2.34 -2.5,2.74 -1.05,2.74 ; -1.05,4.88 -2.5,4.88 -2.5,5.28 -1.05,5.28 ; -1.05,7.42 -2.5,7.42 -2.5,7.82 -1.05,7.82 ; -1.05,9.96 -2.5,9.96 -2.5,10.36 -1.05,10.36 ; 1.05,-11.63 2.5,-11.63 2.5,-11.23 1.05,-11.23 ; 1.05,-9.09 2.5,-9.09 2.5,-8.69 1.05,-8.69 ; 1.05,-6.55 2.5,-6.55 2.5,-6.15 1.05,-6.15 ; 1.05,-4.01 2.5,-4.01 2.5,-3.61 1.05,-3.61 ; 1.05,-1.47 2.5,-1.47 2.5,-1.07 1.05,-1.07 ; 1.05,1.07 2.5,1.07 2.5,1.47 1.05,1.47 ; 1.05,3.61 2.5,3.61 2.5,4.01 1.05,4.01 ; 1.05,6.15 2.5,6.15 2.5,6.55 1.05,6.55 ; 1.05,8.69 2.5,8.69 2.5,9.09 1.05,9.09 ; 1.05,11.23 2.5,11.23 2.5,11.63 1.05,11.63 ; 1.05,11.63 1.05,-12.065 -1.05,-12.065 -1.05,12.065 0.615,12.065 1.05,11.63
  text "'.Designator'" at 0.84,-4.047 h1
Top Courtyard:
  lines w0.254: -3.5,-12.57 3.5,-12.57 3.5,12.57 -3.5,12.57 -3.5,-12.57
Top Designator:
  text ".Designator" at -7.618,-0.508 h1.52

## PinHeader_1x20_P1.27mm_Horizontal [mm]
pads (20):
  rect 1x1 hole 0.65: 1(0,0)
  round 1 hole 0.65: 2(0,-1.27) 3(0,-2.54) 4(0,-3.81) 5(0,-5.08) 6(0,-6.35) 7(0,-7.62) 8(0,-8.89) 9(0,-10.16) 10(0,-11.43) 11(0,-12.7) 12(0,-13.97) 13(0,-15.24) 14(0,-16.51) 15(0,-17.78) 16(0,-19.05) 17(0,-20.32) 18(0,-21.59) 19(0,-22.86) 20(0,-24.13)
F.SilkS:
  lines w0.254: -0.81,0 -0.81,0.81 0,0.81 ; 0.39,-24.875 1.61,-24.875 1.61,0.745 0.39,0.745 ; 0.503,-23.495 1.61,-23.495 ; 0.503,-22.225 1.61,-22.225 ; 0.503,-20.955 1.61,-20.955 ; 0.503,-19.685 1.61,-19.685 ; 0.503,-18.415 1.61,-18.415 ; 0.503,-17.145 1.61,-17.145 ; 0.503,-15.875 1.61,-15.875 ; 0.503,-14.605 1.61,-14.605 ; 0.503,-13.335 1.61,-13.335 ; 0.503,-12.065 1.61,-12.065 ; 0.503,-10.795 1.61,-10.795 ; 0.503,-9.525 1.61,-9.525 ; 0.503,-8.255 1.61,-8.255 ; 0.503,-6.985 1.61,-6.985 ; 0.503,-5.715 1.61,-5.715 ; 0.503,-4.445 1.61,-4.445 ; 0.503,-3.175 1.61,-3.175 ; 0.503,-1.905 1.61,-1.905 ; 0.81,-0.635 1.61,-0.635 ; 1.61,-24.44 5.61,-24.44 5.61,-23.82 1.61,-23.82 ; 1.61,-23.17 5.61,-23.17 5.61,-22.55 1.61,-22.55 ; 1.61,-21.9 5.61,-21.9 5.61,-21.28 1.61,-21.28 ; 1.61,-20.63 5.61,-20.63 5.61,-20.01 1.61,-20.01 ; 1.61,-19.36 5.61,-19.36 5.61,-18.74 1.61,-18.74 ; 1.61,-18.09 5.61,-18.09 5.61,-17.47 1.61,-17.47 ; 1.61,-16.82 5.61,-16.82 5.61,-16.2 1.61,-16.2 ; 1.61,-15.55 5.61,-15.55 5.61,-14.93 1.61,-14.93 ; 1.61,-14.28 5.61,-14.28 5.61,-13.66 1.61,-13.66 ; 1.61,-13.01 5.61,-13.01 5.61,-12.39 1.61,-12.39 ; 1.61,-11.74 5.61,-11.74 5.61,-11.12 1.61,-11.12 ; 1.61,-10.47 5.61,-10.47 5.61,-9.85 1.61,-9.85 ; 1.61,-9.2 5.61,-9.2 5.61,-8.58 1.61,-8.58 ; 1.61,-7.93 5.61,-7.93 5.61,-7.31 1.61,-7.31 ; 1.61,-6.66 5.61,-6.66 5.61,-6.04 1.61,-6.04 ; 1.61,-5.39 5.61,-5.39 5.61,-4.77 1.61,-4.77 ; 1.61,-4.12 5.61,-4.12 5.61,-3.5 1.61,-3.5 ; 1.61,-2.85 5.61,-2.85 5.61,-2.23 1.61,-2.23 ; 1.61,-1.58 5.61,-1.58 5.61,-0.96 1.61,-0.96 ; 1.61,-0.31 5.61,-0.31 5.61,0.31 1.61,0.31 1.61,-0.31
Top Assembly:
  lines w0.254: 0.5,-24.33 -0.2,-24.33 -0.2,-23.93 0.5,-23.93 ; 0.5,-23.06 -0.2,-23.06 -0.2,-22.66 0.5,-22.66 ; 0.5,-21.79 -0.2,-21.79 -0.2,-21.39 0.5,-21.39 ; 0.5,-20.52 -0.2,-20.52 -0.2,-20.12 0.5,-20.12 ; 0.5,-19.25 -0.2,-19.25 -0.2,-18.85 0.5,-18.85 ; 0.5,-17.98 -0.2,-17.98 -0.2,-17.58 0.5,-17.58 ; 0.5,-16.71 -0.2,-16.71 -0.2,-16.31 0.5,-16.31 ; 0.5,-15.44 -0.2,-15.44 -0.2,-15.04 0.5,-15.04 ; 0.5,-14.17 -0.2,-14.17 -0.2,-13.77 0.5,-13.77 ; 0.5,-12.9 -0.2,-12.9 -0.2,-12.5 0.5,-12.5 ; 0.5,-11.63 -0.2,-11.63 -0.2,-11.23 0.5,-11.23 ; 0.5,-10.36 -0.2,-10.36 -0.2,-9.96 0.5,-9.96 ; 0.5,-9.09 -0.2,-9.09 -0.2,-8.69 0.5,-8.69 ; 0.5,-7.82 -0.2,-7.82 -0.2,-7.42 0.5,-7.42 ; 0.5,-6.55 -0.2,-6.55 -0.2,-6.15 0.5,-6.15 ; 0.5,-5.28 -0.2,-5.28 -0.2,-4.88 0.5,-4.88 ; 0.5,-4.01 -0.2,-4.01 -0.2,-3.61 0.5,-3.61 ; 0.5,-2.74 -0.2,-2.74 -0.2,-2.34 0.5,-2.34 ; 0.5,-1.47 -0.2,-1.47 -0.2,-1.07 0.5,-1.07 ; 0.5,-0.2 -0.2,-0.2 -0.2,0.2 0.5,0.2 ; 1.5,-24.33 5.5,-24.33 5.5,-23.93 1.5,-23.93 ; 1.5,-23.06 5.5,-23.06 5.5,-22.66 1.5,-22.66 ; 1.5,-21.79 5.5,-21.79 5.5,-21.39 1.5,-21.39 ; 1.5,-20.52 5.5,-20.52 5.5,-20.12 1.5,-20.12 ; 1.5,-19.25 5.5,-19.25 5.5,-18.85 1.5,-18.85 ; 1.5,-17.98 5.5,-17.98 5.5,-17.58 1.5,-17.58 ; 1.5,-16.71 5.5,-16.71 5.5,-16.31 1.5,-16.31 ; 1.5,-15.44 5.5,-15.44 5.5,-15.04 1.5,-15.04 ; 1.5,-14.17 5.5,-14.17 5.5,-13.77 1.5,-13.77 ; 1.5,-12.9 5.5,-12.9 5.5,-12.5 1.5,-12.5 ; 1.5,-11.63 5.5,-11.63 5.5,-11.23 1.5,-11.23 ; 1.5,-10.36 5.5,-10.36 5.5,-9.96 1.5,-9.96 ; 1.5,-9.09 5.5,-9.09 5.5,-8.69 1.5,-8.69 ; 1.5,-7.82 5.5,-7.82 5.5,-7.42 1.5,-7.42 ; 1.5,-6.55 5.5,-6.55 5.5,-6.15 1.5,-6.15 ; 1.5,-5.28 5.5,-5.28 5.5,-4.88 1.5,-4.88 ; 1.5,-4.01 5.5,-4.01 5.5,-3.61 1.5,-3.61 ; 1.5,-2.74 5.5,-2.74 5.5,-2.34 1.5,-2.34 ; 1.5,-1.47 5.5,-1.47 5.5,-1.07 1.5,-1.07 ; 1.5,-0.2 5.5,-0.2 5.5,0.2 1.5,0.2 ; 0.5,-24.765 1.5,-24.765 1.5,0.635 0.75,0.635 0.5,0.385 0.5,-24.765
  text "'.Designator'" at 1.504,-14.493 h0.6
Top Courtyard:
  lines w0.254: -1.14,-25.27 6,-25.27 6,1.14 -1.14,1.14 -1.14,-25.27
Top Designator:
  text ".Designator" at -5.188,-12.573 h1.52

## PinHeader_1x20_P1.27mm_Vertical [mm]
pads (20):
  rect 1x1 hole 0.65: 1(0,0)
  round 1 hole 0.65: 2(0,-1.27) 3(0,-2.54) 4(0,-3.81) 5(0,-5.08) 6(0,-6.35) 7(0,-7.62) 8(0,-8.89) 9(0,-10.16) 10(0,-11.43) 11(0,-12.7) 12(0,-13.97) 13(0,-15.24) 14(0,-16.51) 15(0,-17.78) 16(0,-19.05) 17(0,-20.32) 18(0,-21.59) 19(0,-22.86) 20(0,-24.13)
F.SilkS:
  lines w0.254: -1.16,0 -1.16,0.81 0,0.81 ; -0.667,-0.81 -1.16,-0.81 -1.16,-24.875 -0.318,-24.875 ; 0.318,-24.875 1.16,-24.875 1.16,-0.81 0.667,-0.81
Top Assembly:
  lines w0.254: -1.05,-24.765 1.05,-24.765 1.05,0.635 -0.525,0.635 -1.05,0.11 -1.05,-24.765
  text "'.Designator'" at 0.84,-16.112 h1
Top Courtyard:
  lines w0.254: -1.55,-25.27 1.55,-25.27 1.55,1.14 -1.55,1.14 -1.55,-25.27
Top Designator:
  text ".Designator" at -7.618,-12.573 h1.52

## PinHeader_1x20_P1.27mm_Vertical_SMD_Pin1Left [mm]
pads (20):
  rect 3x0.65 smd: 1(-1.5,12.065) 2(1.5,10.795) 3(-1.5,9.525) 4(1.5,8.255) 5(-1.5,6.985) 6(1.5,5.715) 7(-1.5,4.445) 8(1.5,3.175) 9(-1.5,1.905) 10(1.5,0.635) 11(-1.5,-0.635) 12(1.5,-1.905) 13(-1.5,-3.175) 14(1.5,-4.445) 15(-1.5,-5.715) 16(1.5,-6.985) 17(-1.5,-8.255) 18(1.5,-9.525) 19(-1.5,-10.795) 20(1.5,-12.065)
F.SilkS:
  lines w0.254: -2.94,12.7 -1.16,12.7 -1.16,12.81 1.16,12.81 ; -1.16,-11.43 -1.16,-12.81 1.16,-12.81 1.16,-12.7 ; -1.16,-10.16 -1.16,-8.89 ; -1.16,-7.62 -1.16,-6.35 ; -1.16,-5.08 -1.16,-3.81 ; -1.16,-2.54 -1.16,-1.27 ; -1.16,0 -1.16,1.27 ; -1.16,2.54 -1.16,3.81 ; -1.16,5.08 -1.16,6.35 ; -1.16,7.62 -1.16,8.89 ; -1.16,10.16 -1.16,11.43 ; 1.16,-11.43 1.16,-10.16 ; 1.16,-8.89 1.16,-7.62 ; 1.16,-6.35 1.16,-5.08 ; 1.16,-3.81 1.16,-2.54 ; 1.16,-1.27 1.16,0 ; 1.16,1.27 1.16,2.54 ; 1.16,3.81 1.16,5.08 ; 1.16,6.35 1.16,7.62 ; 1.16,8.89 1.16,10.16 ; 1.16,11.43 1.16,12.7
Top Assembly:
  lines w0.254: -1.05,-10.995 -2.5,-10.995 -2.5,-10.595 -1.05,-10.595 ; -1.05,-8.455 -2.5,-8.455 -2.5,-8.055 -1.05,-8.055 ; -1.05,-5.915 -2.5,-5.915 -2.5,-5.515 -1.05,-5.515 ; -1.05,-3.375 -2.5,-3.375 -2.5,-2.975 -1.05,-2.975 ; -1.05,-0.835 -2.5,-0.835 -2.5,-0.435 -1.05,-0.435 ; -1.05,1.705 -2.5,1.705 -2.5,2.105 -1.05,2.105 ; -1.05,4.245 -2.5,4.245 -2.5,4.645 -1.05,4.645 ; -1.05,6.785 -2.5,6.785 -2.5,7.185 -1.05,7.185 ; -1.05,9.325 -2.5,9.325 -2.5,9.725 -1.05,9.725 ; -1.05,11.865 -2.5,11.865 -2.5,12.265 -1.05,12.265 ; 1.05,-12.265 2.5,-12.265 2.5,-11.865 1.05,-11.865 ; 1.05,-9.725 2.5,-9.725 2.5,-9.325 1.05,-9.325 ; 1.05,-7.185 2.5,-7.185 2.5,-6.785 1.05,-6.785 ; 1.05,-4.645 2.5,-4.645 2.5,-4.245 1.05,-4.245 ; 1.05,-2.105 2.5,-2.105 2.5,-1.705 1.05,-1.705 ; 1.05,0.435 2.5,0.435 2.5,0.835 1.05,0.835 ; 1.05,2.975 2.5,2.975 2.5,3.375 1.05,3.375 ; 1.05,5.515 2.5,5.515 2.5,5.915 1.05,5.915 ; 1.05,8.055 2.5,8.055 2.5,8.455 1.05,8.455 ; 1.05,10.595 2.5,10.595 2.5,10.995 1.05,10.995 ; -1.05,12.265 -1.05,-12.7 1.05,-12.7 1.05,12.7 -0.615,12.7 -1.05,12.265
  text "'.Designator'" at 0.84,-4.047 h1
Top Courtyard:
  lines w0.254: -3.5,-13.2 3.5,-13.2 3.5,13.2 -3.5,13.2 -3.5,-13.2
Top Designator:
  text ".Designator" at -7.618,-0.508 h1.52

## PinHeader_1x20_P1.27mm_Vertical_SMD_Pin1Right [mm]
pads (20):
  rect 3x0.65 smd: 1(1.5,12.065) 2(-1.5,10.795) 3(1.5,9.525) 4(-1.5,8.255) 5(1.5,6.985) 6(-1.5,5.715) 7(1.5,4.445) 8(-1.5,3.175) 9(1.5,1.905) 10(-1.5,0.635) 11(1.5,-0.635) 12(-1.5,-1.905) 13(1.5,-3.175) 14(-1.5,-4.445) 15(1.5,-5.715) 16(-1.5,-6.985) 17(1.5,-8.255) 18(-1.5,-9.525) 19(1.5,-10.795) 20(-1.5,-12.065)
F.SilkS:
  lines w0.254: -1.16,-12.7 -1.16,-12.81 1.16,-12.81 1.16,-11.43 ; -1.16,-11.43 -1.16,-10.16 ; -1.16,-8.89 -1.16,-7.62 ; -1.16,-6.35 -1.16,-5.08 ; -1.16,-3.81 -1.16,-2.54 ; -1.16,-1.27 -1.16,0 ; -1.16,1.27 -1.16,2.54 ; -1.16,3.81 -1.16,5.08 ; -1.16,6.35 -1.16,7.62 ; -1.16,8.89 -1.16,10.16 ; -1.16,12.81 1.16,12.81 1.16,12.7 2.94,12.7 ; 1.16,-10.16 1.16,-8.89 ; 1.16,-7.62 1.16,-6.35 ; 1.16,-5.08 1.16,-3.81 ; 1.16,-2.54 1.16,-1.27 ; 1.16,0 1.16,1.27 ; 1.16,2.54 1.16,3.81 ; 1.16,5.08 1.16,6.35 ; 1.16,7.62 1.16,8.89 ; 1.16,10.16 1.16,11.43 ; -1.16,11.43 -1.16,12.7 -1.16,11.43
Top Assembly:
  lines w0.254: -1.05,-12.265 -2.5,-12.265 -2.5,-11.865 -1.05,-11.865 ; -1.05,-9.725 -2.5,-9.725 -2.5,-9.325 -1.05,-9.325 ; -1.05,-7.185 -2.5,-7.185 -2.5,-6.785 -1.05,-6.785 ; -1.05,-4.645 -2.5,-4.645 -2.5,-4.245 -1.05,-4.245 ; -1.05,-2.105 -2.5,-2.105 -2.5,-1.705 -1.05,-1.705 ; -1.05,0.435 -2.5,0.435 -2.5,0.835 -1.05,0.835 ; -1.05,2.975 -2.5,2.975 -2.5,3.375 -1.05,3.375 ; -1.05,5.515 -2.5,5.515 -2.5,5.915 -1.05,5.915 ; -1.05,8.055 -2.5,8.055 -2.5,8.455 -1.05,8.455 ; -1.05,10.595 -2.5,10.595 -2.5,10.995 -1.05,10.995 ; 1.05,-10.995 2.5,-10.995 2.5,-10.595 1.05,-10.595 ; 1.05,-8.455 2.5,-8.455 2.5,-8.055 1.05,-8.055 ; 1.05,-5.915 2.5,-5.915 2.5,-5.515 1.05,-5.515 ; 1.05,-3.375 2.5,-3.375 2.5,-2.975 1.05,-2.975 ; 1.05,-0.835 2.5,-0.835 2.5,-0.435 1.05,-0.435 ; 1.05,1.705 2.5,1.705 2.5,2.105 1.05,2.105 ; 1.05,4.245 2.5,4.245 2.5,4.645 1.05,4.645 ; 1.05,6.785 2.5,6.785 2.5,7.185 1.05,7.185 ; 1.05,9.325 2.5,9.325 2.5,9.725 1.05,9.725 ; 1.05,11.865 2.5,11.865 2.5,12.265 1.05,12.265 ; 1.05,12.265 1.05,-12.7 -1.05,-12.7 -1.05,12.7 0.615,12.7 1.05,12.265
  text "'.Designator'" at 0.84,-4.047 h1
Top Courtyard:
  lines w0.254: -3.5,-13.2 3.5,-13.2 3.5,13.2 -3.5,13.2 -3.5,-13.2
Top Designator:
  text ".Designator" at -7.618,-0.508 h1.52

## PinHeader_1x21_P1.27mm_Horizontal [mm]
pads (21):
  rect 1x1 hole 0.65: 1(0,0)
  round 1 hole 0.65: 2(0,-1.27) 3(0,-2.54) 4(0,-3.81) 5(0,-5.08) 6(0,-6.35) 7(0,-7.62) 8(0,-8.89) 9(0,-10.16) 10(0,-11.43) 11(0,-12.7) 12(0,-13.97) 13(0,-15.24) 14(0,-16.51) 15(0,-17.78) 16(0,-19.05) 17(0,-20.32) 18(0,-21.59) 19(0,-22.86) 20(0,-24.13) 21(0,-25.4)
F.SilkS:
  lines w0.254: -0.81,0 -0.81,0.81 0,0.81 ; 0.39,-26.145 1.61,-26.145 1.61,0.745 0.39,0.745 ; 0.503,-24.765 1.61,-24.765 ; 0.503,-23.495 1.61,-23.495 ; 0.503,-22.225 1.61,-22.225 ; 0.503,-20.955 1.61,-20.955 ; 0.503,-19.685 1.61,-19.685 ; 0.503,-18.415 1.61,-18.415 ; 0.503,-17.145 1.61,-17.145 ; 0.503,-15.875 1.61,-15.875 ; 0.503,-14.605 1.61,-14.605 ; 0.503,-13.335 1.61,-13.335 ; 0.503,-12.065 1.61,-12.065 ; 0.503,-10.795 1.61,-10.795 ; 0.503,-9.525 1.61,-9.525 ; 0.503,-8.255 1.61,-8.255 ; 0.503,-6.985 1.61,-6.985 ; 0.503,-5.715 1.61,-5.715 ; 0.503,-4.445 1.61,-4.445 ; 0.503,-3.175 1.61,-3.175 ; 0.503,-1.905 1.61,-1.905 ; 0.81,-0.635 1.61,-0.635 ; 1.61,-25.71 5.61,-25.71 5.61,-25.09 1.61,-25.09 ; 1.61,-24.44 5.61,-24.44 5.61,-23.82 1.61,-23.82 ; 1.61,-23.17 5.61,-23.17 5.61,-22.55 1.61,-22.55 ; 1.61,-21.9 5.61,-21.9 5.61,-21.28 1.61,-21.28 ; 1.61,-20.63 5.61,-20.63 5.61,-20.01 1.61,-20.01 ; 1.61,-19.36 5.61,-19.36 5.61,-18.74 1.61,-18.74 ; 1.61,-18.09 5.61,-18.09 5.61,-17.47 1.61,-17.47 ; 1.61,-16.82 5.61,-16.82 5.61,-16.2 1.61,-16.2 ; 1.61,-15.55 5.61,-15.55 5.61,-14.93 1.61,-14.93 ; 1.61,-14.28 5.61,-14.28 5.61,-13.66 1.61,-13.66 ; 1.61,-13.01 5.61,-13.01 5.61,-12.39 1.61,-12.39 ; 1.61,-11.74 5.61,-11.74 5.61,-11.12 1.61,-11.12 ; 1.61,-10.47 5.61,-10.47 5.61,-9.85 1.61,-9.85 ; 1.61,-9.2 5.61,-9.2 5.61,-8.58 1.61,-8.58 ; 1.61,-7.93 5.61,-7.93 5.61,-7.31 1.61,-7.31 ; 1.61,-6.66 5.61,-6.66 5.61,-6.04 1.61,-6.04 ; 1.61,-5.39 5.61,-5.39 5.61,-4.77 1.61,-4.77 ; 1.61,-4.12 5.61,-4.12 5.61,-3.5 1.61,-3.5 ; 1.61,-2.85 5.61,-2.85 5.61,-2.23 1.61,-2.23 ; 1.61,-1.58 5.61,-1.58 5.61,-0.96 1.61,-0.96 ; 1.61,-0.31 5.61,-0.31 5.61,0.31 1.61,0.31 1.61,-0.31
Top Assembly:
  lines w0.254: 0.5,-25.6 -0.2,-25.6 -0.2,-25.2 0.5,-25.2 ; 0.5,-24.33 -0.2,-24.33 -0.2,-23.93 0.5,-23.93 ; 0.5,-23.06 -0.2,-23.06 -0.2,-22.66 0.5,-22.66 ; 0.5,-21.79 -0.2,-21.79 -0.2,-21.39 0.5,-21.39 ; 0.5,-20.52 -0.2,-20.52 -0.2,-20.12 0.5,-20.12 ; 0.5,-19.25 -0.2,-19.25 -0.2,-18.85 0.5,-18.85 ; 0.5,-17.98 -0.2,-17.98 -0.2,-17.58 0.5,-17.58 ; 0.5,-16.71 -0.2,-16.71 -0.2,-16.31 0.5,-16.31 ; 0.5,-15.44 -0.2,-15.44 -0.2,-15.04 0.5,-15.04 ; 0.5,-14.17 -0.2,-14.17 -0.2,-13.77 0.5,-13.77 ; 0.5,-12.9 -0.2,-12.9 -0.2,-12.5 0.5,-12.5 ; 0.5,-11.63 -0.2,-11.63 -0.2,-11.23 0.5,-11.23 ; 0.5,-10.36 -0.2,-10.36 -0.2,-9.96 0.5,-9.96 ; 0.5,-9.09 -0.2,-9.09 -0.2,-8.69 0.5,-8.69 ; 0.5,-7.82 -0.2,-7.82 -0.2,-7.42 0.5,-7.42 ; 0.5,-6.55 -0.2,-6.55 -0.2,-6.15 0.5,-6.15 ; 0.5,-5.28 -0.2,-5.28 -0.2,-4.88 0.5,-4.88 ; 0.5,-4.01 -0.2,-4.01 -0.2,-3.61 0.5,-3.61 ; 0.5,-2.74 -0.2,-2.74 -0.2,-2.34 0.5,-2.34 ; 0.5,-1.47 -0.2,-1.47 -0.2,-1.07 0.5,-1.07 ; 0.5,-0.2 -0.2,-0.2 -0.2,0.2 0.5,0.2 ; 1.5,-25.6 5.5,-25.6 5.5,-25.2 1.5,-25.2 ; 1.5,-24.33 5.5,-24.33 5.5,-23.93 1.5,-23.93 ; 1.5,-23.06 5.5,-23.06 5.5,-22.66 1.5,-22.66 ; 1.5,-21.79 5.5,-21.79 5.5,-21.39 1.5,-21.39 ; 1.5,-20.52 5.5,-20.52 5.5,-20.12 1.5,-20.12 ; 1.5,-19.25 5.5,-19.25 5.5,-18.85 1.5,-18.85 ; 1.5,-17.98 5.5,-17.98 5.5,-17.58 1.5,-17.58 ; 1.5,-16.71 5.5,-16.71 5.5,-16.31 1.5,-16.31 ; 1.5,-15.44 5.5,-15.44 5.5,-15.04 1.5,-15.04 ; 1.5,-14.17 5.5,-14.17 5.5,-13.77 1.5,-13.77 ; 1.5,-12.9 5.5,-12.9 5.5,-12.5 1.5,-12.5 ; 1.5,-11.63 5.5,-11.63 5.5,-11.23 1.5,-11.23 ; 1.5,-10.36 5.5,-10.36 5.5,-9.96 1.5,-9.96 ; 1.5,-9.09 5.5,-9.09 5.5,-8.69 1.5,-8.69 ; 1.5,-7.82 5.5,-7.82 5.5,-7.42 1.5,-7.42 ; 1.5,-6.55 5.5,-6.55 5.5,-6.15 1.5,-6.15 ; 1.5,-5.28 5.5,-5.28 5.5,-4.88 1.5,-4.88 ; 1.5,-4.01 5.5,-4.01 5.5,-3.61 1.5,-3.61 ; 1.5,-2.74 5.5,-2.74 5.5,-2.34 1.5,-2.34 ; 1.5,-1.47 5.5,-1.47 5.5,-1.07 1.5,-1.07 ; 1.5,-0.2 5.5,-0.2 5.5,0.2 1.5,0.2 ; 0.5,-26.035 1.5,-26.035 1.5,0.635 0.75,0.635 0.5,0.385 0.5,-26.035
  text "'.Designator'" at 1.504,-15.128 h0.6
Top Courtyard:
  lines w0.254: -1.14,-26.54 6,-26.54 6,1.14 -1.14,1.14 -1.14,-26.54
Top Designator:
  text ".Designator" at -5.188,-13.208 h1.52

## PinHeader_1x21_P1.27mm_Vertical [mm]
pads (21):
  rect 1x1 hole 0.65: 1(0,0)
  round 1 hole 0.65: 2(0,-1.27) 3(0,-2.54) 4(0,-3.81) 5(0,-5.08) 6(0,-6.35) 7(0,-7.62) 8(0,-8.89) 9(0,-10.16) 10(0,-11.43) 11(0,-12.7) 12(0,-13.97) 13(0,-15.24) 14(0,-16.51) 15(0,-17.78) 16(0,-19.05) 17(0,-20.32) 18(0,-21.59) 19(0,-22.86) 20(0,-24.13) 21(0,-25.4)
F.SilkS:
  lines w0.254: -1.16,0 -1.16,0.81 0,0.81 ; -0.667,-0.81 -1.16,-0.81 -1.16,-26.145 -0.318,-26.145 ; 0.318,-26.145 1.16,-26.145 1.16,-0.81 0.667,-0.81
Top Assembly:
  lines w0.254: -1.05,-26.035 1.05,-26.035 1.05,0.635 -0.525,0.635 -1.05,0.11 -1.05,-26.035
  text "'.Designator'" at 0.84,-16.747 h1
Top Courtyard:
  lines w0.254: -1.55,-26.54 1.55,-26.54 1.55,1.14 -1.55,1.14 -1.55,-26.54
Top Designator:
  text ".Designator" at -7.618,-13.208 h1.52